# EAGLE library part TPS79601DRBRG4 (library NetGeeks)
LDO Voltage Regulators Sgl Output LDO 1.0A Adj Source: Datasheet <http://www.ti.com/lit/ds/symlink/tps796.pdf>
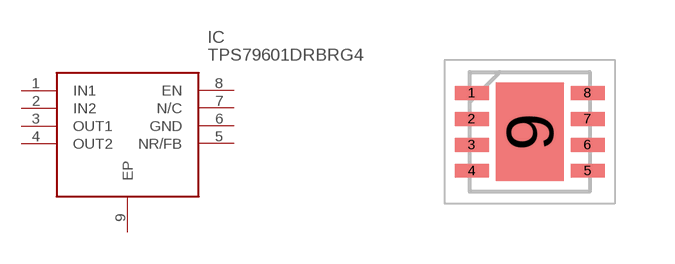
[diagram p10: symbol with the pads of SON65P300X300X100-9N; footprint SON65P300X300X100-9N]

Designator prefix IC

## TPS79601DRBRG4 (Arrow_Part_Number: TPS79601DRBRG4; Arrow_Price/Stock: https://www.arrow.com/en/products/tps79601drbrg4/texas-instruments; Description: LDO Voltage Regulators Sgl Output LDO 1.0A Adj; Height: 1mm; Manufacturer_Name: Texas Instruments; Manufacturer_Part_Number: TPS79601DRBRG4)  [SON65P300X300X100-9N]
1  IN1
2  IN2
3  OUT1
4  OUT2
5  NR/FB
6  GND
7  N/C  nc
8  EN
9  EP

## Footprint SON65P300X300X100-9N (pad centres in mm)
DRB0008B
smd 0.85 x 0.35: 1 -1.45,0.975; 2 -1.45,0.325; 3 -1.45,-0.325; 4 -1.45,-0.975; 5 1.45,-0.975; 6 1.45,-0.325; 7 1.45,0.325; 8 1.45,0.975
smd 1.7 x 2.45: 9 0,0